# EAGLE library part TRNS-RS485-ISO3086 (library eagleLib v2)
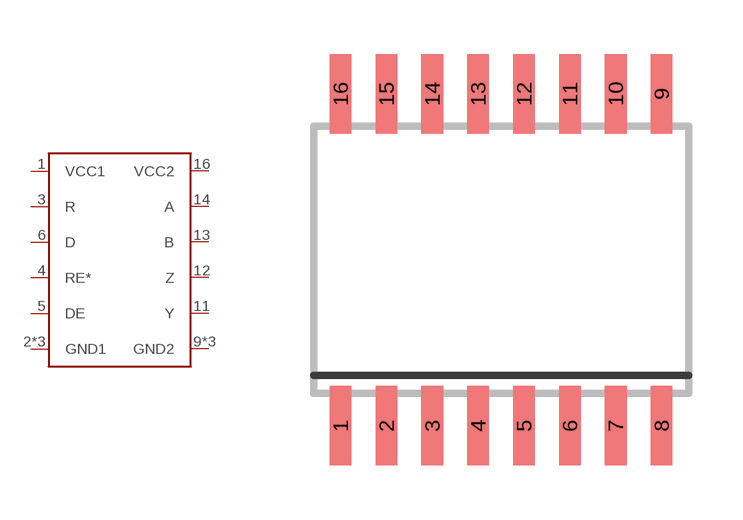
[diagram p67: symbol with the pads of SO-16DW; footprint SO-16DW]

Designator prefix -

## TRNS-RS485-ISO3086  [SO-16DW]
1  VCC1
2  GND1
3  R
4  RE*
5  DE
6  D
7  GND1
8  GND1
9  GND2
10  GND2
11  Y
12  Z
13  B
14  A
15  GND2
16  VCC2

## Footprint SO-16DW (pad centres in mm)
DW (RPDSO-G16) Source: http://focus.ti.com/lit/ds/symlink/iso1176.pdf
smd 0.6 x 2.2: 1 -4.445,-4.6; 2 -3.175,-4.6; 3 -1.905,-4.6; 4 -0.635,-4.6; 5 0.635,-4.6; 6 1.905,-4.6; 7 3.175,-4.6; 8 4.445,-4.6; 9 4.445,4.6; 10 3.175,4.6; 11 1.905,4.6; 12 0.635,4.6; 13 -0.635,4.6; 14 -1.905,4.6; 15 -3.175,4.6; 16 -4.445,4.6